# Altium footprint library QFN50P400X400X100-25N.PcbLib: 2 footprints
Each footprint in its own frame and in the unit in brackets; x right, y up, seen from the top. Pads: shape width x height; smd on the part's side, far side on the other; paste and mask are expansions set on the pad; w line width, h text height; cw(c..) or ccw(c..) is an arc to the next point about the centre after c.
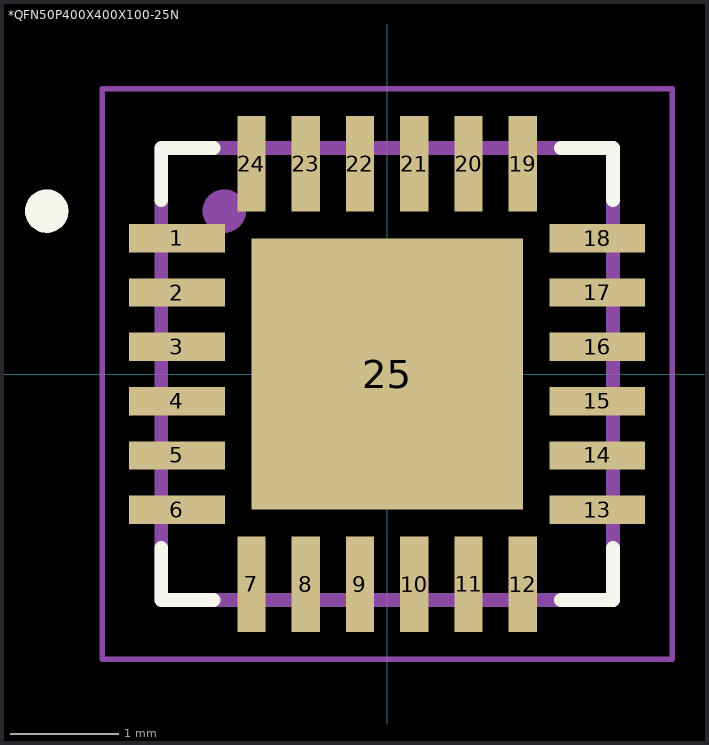
[diagram p0: the footprints below, top view; thin cyan lines are the x and y axes]

## *QFN50P400X400X100-25N [mm]
pads (25):
  rect 0.88x0.26 smd: 1(-1.935,1.25) 2(-1.935,0.75) 3(-1.935,0.25) 4(-1.935,-0.25) 5(-1.935,-0.75) 6(-1.935,-1.25) 13(1.935,-1.25) 14(1.935,-0.75) 15(1.935,-0.25) 16(1.935,0.25) 17(1.935,0.75) 18(1.935,1.25)
  rect 0.26x0.88 smd: 7(-1.25,-1.935) 8(-0.75,-1.935) 9(-0.25,-1.935) 10(0.25,-1.935) 11(0.75,-1.935) 12(1.25,-1.935) 19(1.25,1.935) 20(0.75,1.935) 21(0.25,1.935) 22(-0.25,1.935) 23(-0.75,1.935) 24(-1.25,1.935)
  rect 2.5x2.5 smd: 25(0,0)
Top Overlay:
  circle w0.2: c-3.135,1.5 r0.1
  lines w0.127: -2.08,-1.6 -2.08,-2.08 -1.6,-2.08 ; -2.08,1.6 -2.08,2.08 -1.6,2.08 ; 1.6,-2.08 2.08,-2.08 2.08,-1.6 ; 1.6,2.08 2.08,2.08 2.08,1.6
Top Paste:
  region: -0.791,0.79 0.79,0.79 0.79,-0.791 -0.791,-0.791
Mechanical 13:
  circle w0.2: c-1.5,1.5 r0.1
  circle w0.2: c-1.5,1.5 r0.1
  lines w0.127: -2.08,-2.08 -2.08,2.08 ; -2.08,-2.08 2.08,-2.08 ; -2.08,-2.08 -2.08,2.08 ; -2.08,-2.08 2.08,-2.08 ; -2.08,2.08 2.08,2.08 ; -2.08,2.08 2.08,2.08 ; 2.08,-2.08 2.08,2.08 ; 2.08,-2.08 2.08,2.08
Mechanical 15:
  lines w0.05: -2.625,-2.625 -2.625,2.625 2.625,2.625 2.625,-2.625 -2.625,-2.625

## PCBComponent_1 [mm]